# Altium schematic symbol library Tantalum Capacitors.SchLib: 10 symbols
Pins are listed as number, name and electrical type; pins without a type are passive.

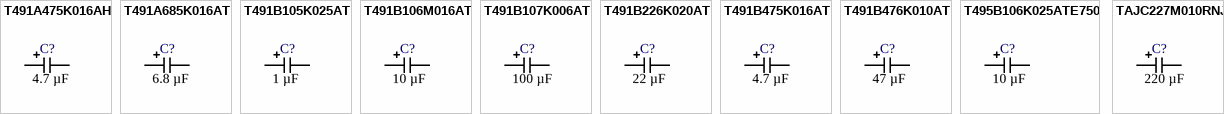
[diagram p0: symbols T491A475K016AH to TAJC227M010RNJ]

## T491A475K016AH
designator C?  Capacitance: 4.7 µF  (hidden comment: *)
CAP TANT 4.7UF 10% 16V 1206; Supplier 1: Digi-Key; Supplier 2: Mouser; Supplier Part Number 1: 399-8289-1-ND; Supplier Part Number 2: 80-T491A475K016AH
footprint KEMET_CAP_TAN-A
pins: 1, 2

## T491A685K016AT
designator C?  Capacitance: 6.8 µF  (hidden comment: *)
CAP TANT 6.8UF 10% 16V 1206; Supplier 1: Digi-Key; Supplier 2: Farnell; Supplier 3: Mouser; Supplier Part Number 1: 399-10132-1-ND; Supplier Part Number 2: 1457431; Supplier Part Number 3: 80-T491A685K016
footprint KEMET_CAP_TAN-A
pins: 1, 2

## T491B105K025AT
designator C?  Capacitance: 1 µF  (hidden comment: *)
CAP TANT 1UF 10% 25V 1411; Supplier 1: Digi-Key; Supplier 2: Farnell; Supplier 3: Mouser; Supplier 4: Arrow Electronics; Supplier Part Number 1: 399-9719-1-ND; Supplier Part Number 2: 2321211; Supplier Part Number 3: 80-T491B105K025; Supplier Part Number 4: T491B105K025AT
footprint KEMET_CAP_TAN-B
pins: 1, 2

## T491B106M016AT
designator C?  Capacitance: 10 µF  (hidden comment: *)
CAP TANT 10UF 20% 16V 1411; Supplier 1: Digi-Key; Supplier 2: Farnell; Supplier 3: Mouser; Supplier Part Number 1: 399-3708-1-ND; Supplier Part Number 2: 2462772; Supplier Part Number 3: 80-T491B106M016
footprint KEMET_CAP_TAN-B
pins: 1, 2

## T491B107K006AT
designator C?  Capacitance: 100 µF  (hidden comment: *)
CAP TANT 100UF 10% 6.3V 1411; Supplier 1: Digi-Key; Supplier 2: Farnell; Supplier 3: Mouser; Supplier Part Number 1: 399-8301-1-ND; Supplier Part Number 2: 1457438; Supplier Part Number 3: 80-T491B107K006
footprint KEMET_CAP_TAN-B
pins: 1, 2

## T491B226K020AT
designator C?  Capacitance: 22 µF  (hidden comment: *)
CAP TANT 22UF 10% 20V 1411; Supplier 1: Digi-Key; Supplier 2: Farnell; Supplier 3: Mouser; Supplier Part Number 1: 399-5296-1-ND; Supplier Part Number 2: 2321214; Supplier Part Number 3: 80-T491B226K020AT
footprint KEMET_CAP_TAN-B
pins: 1, 2

## T491B475K016AT
designator C?  Capacitance: 4.7 µF  (hidden comment: *)
CAP TANT 4.7UF 10% 16V 1411; Supplier 1: Digi-Key; Supplier 2: Farnell; Supplier 3: Mouser; Supplier Part Number 1: 399-3722-6-ND; Supplier Part Number 2: 1457453; Supplier Part Number 3: 80-T491B475K016
footprint KEMET_CAP_TAN-B
pins: 1, 2

## T491B476K010AT
designator C?  Capacitance: 47 µF  (hidden comment: *)
CAP TANT 47UF 10% 10V 1411; Supplier 1: Digi-Key; Supplier 2: Farnell; Supplier 3: Mouser; Supplier Part Number 1: 399-9728-1-ND; Supplier Part Number 2: 1457458; Supplier Part Number 3: 80-T491B476K010
footprint KEMET_CAP_TAN-B
pins: 1, 2

## T495B106K025ATE750
designator C?  Capacitance: 10 µF  (hidden comment: *)
CAP TANT 10UF 10% 25V 1411; Supplier 1: Digi-Key; Supplier 2: Farnell; Supplier 3: Mouser; Supplier Part Number 1: 399-18418-1-ND; Supplier Part Number 2: 2470989; Supplier Part Number 3: 80-T495B106K25ATE750
footprint KEMET_CAP_TAN-B
pins: 1, 2

## TAJC227M010RNJ
designator C?  Capacitance: 220 µF  (hidden comment: *)
CAP TANT 220UF 20% 10V 2312; Supplier 1: Digi-Key; Supplier 2: Mouser; Supplier 3: Arrow Electronics; Supplier Part Number 3: TAJC227M010RNJ; Supplier Part Number 2: 581-TAJC227M010RNJ; Supplier Part Number 1: 478-8899-1-ND
footprint KYOCERA_CAP_TAN-C
pins: 1, 2